# EAGLE library part ADV7513 (library adv7513)
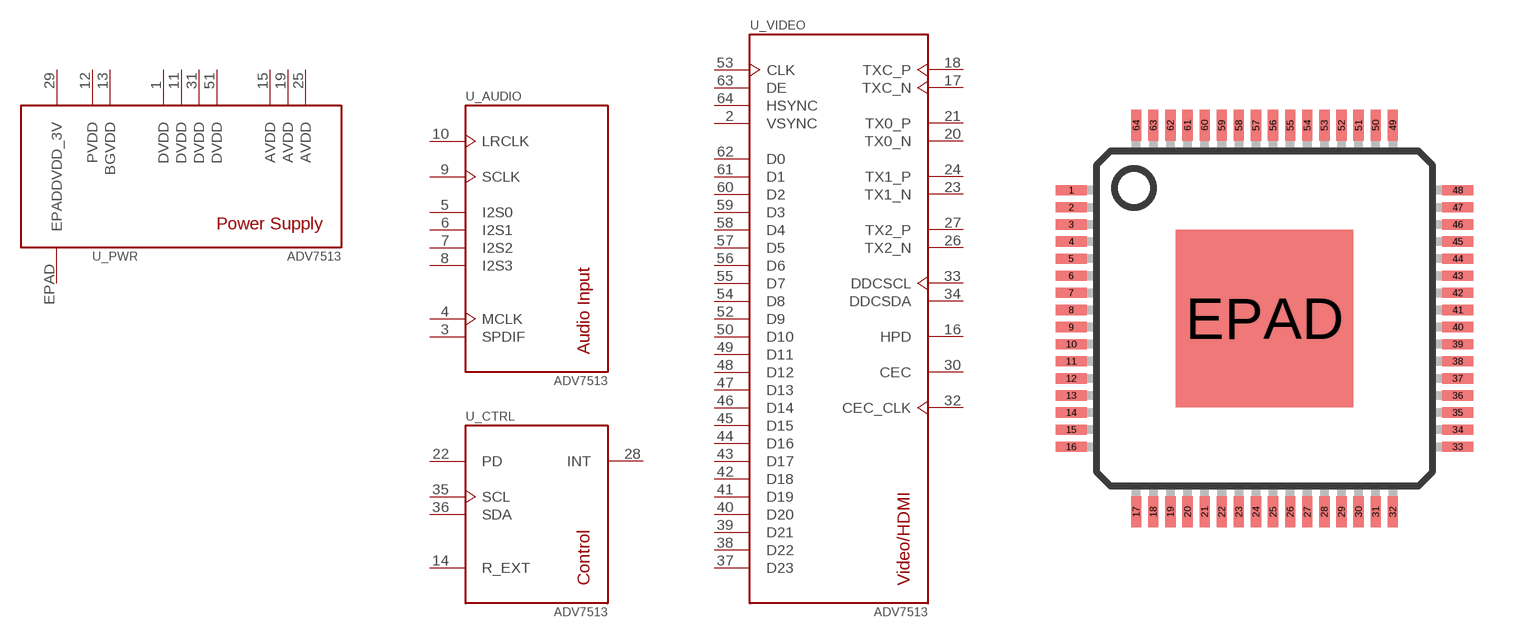
[diagram p0: symbol with the pads of LQFP-ST-64-2; footprint LQFP-ST-64-2]

Designator prefix -; gates _VIDEO=ADV7513 _AUDIO=ADV7513_AUDIO _CTRL=ADV7513_CTRL _PWR=ADV7513_PWR

## ADV7513  [LQFP-ST-64-2]
1  _PWR:DVDD  pwr
2  _VIDEO:VSYNC  in
3  _AUDIO:SPDIF  in
4  _AUDIO:MCLK  in
5  _AUDIO:I2S0  in
6  _AUDIO:I2S1  in
7  _AUDIO:I2S2  in
8  _AUDIO:I2S3  in
9  _AUDIO:SCLK  in
10  _AUDIO:LRCLK  in
11  _PWR:DVDD  pwr
12  _PWR:PVDD  pwr
13  _PWR:BGVDD  pwr
14  _CTRL:R_EXT  in
15  _PWR:AVDD  pwr
16  _VIDEO:HPD  in
17  _VIDEO:TXC_N  out
18  _VIDEO:TXC_P  out
19  _PWR:AVDD  pwr
20  _VIDEO:TX0_N  out
21  _VIDEO:TX0_P  out
22  _CTRL:PD  in
23  _VIDEO:TX1_N  out
24  _VIDEO:TX1_P  out
25  _PWR:AVDD  pwr
26  _VIDEO:TX2_N  out
27  _VIDEO:TX2_P  out
28  _CTRL:INT  out
29  _PWR:DVDD_3V  pwr
30  _VIDEO:CEC
31  _PWR:DVDD  pwr
32  _VIDEO:CEC_CLK  in
33  _VIDEO:DDCSCL  out
34  _VIDEO:DDCSDA
35  _CTRL:SCL  in
36  _CTRL:SDA
37  _VIDEO:D23  in
38  _VIDEO:D22  in
39  _VIDEO:D21  in
40  _VIDEO:D20  in
41  _VIDEO:D19  in
42  _VIDEO:D18  in
43  _VIDEO:D17  in
44  _VIDEO:D16  in
45  _VIDEO:D15  in
46  _VIDEO:D14  in
47  _VIDEO:D13  in
48  _VIDEO:D12  in
49  _VIDEO:D11  in
50  _VIDEO:D10  in
51  _PWR:DVDD  pwr
52  _VIDEO:D9  in
53  _VIDEO:CLK
54  _VIDEO:D8  in
55  _VIDEO:D7  in
56  _VIDEO:D6  in
57  _VIDEO:D5  in
58  _VIDEO:D4  in
59  _VIDEO:D3  in
60  _VIDEO:D2  in
61  _VIDEO:D1  in
62  _VIDEO:D0  in
63  _VIDEO:DE  in
64  _VIDEO:HSYNC  in
EPAD  _PWR:EPAD  pwr

## Footprint LQFP-ST-64-2 (pad centres in mm)
64-Lead Low Profile Quad Flat Package [LQFP_EP] (SW-64-2) COMPLIANT TO JEDEC STANDARDS MS-026-BCD-HD
smd 0.9 x 0.3: 1 -5.65,3.75; 2 -5.65,3.25; 3 -5.65,2.75; 4 -5.65,2.25; 5 -5.65,1.75; 6 -5.65,1.25; 7 -5.65,0.75; 8 -5.65,0.25; 9 -5.65,-0.25; 10 -5.65,-0.75; 11 -5.65,-1.25; 12 -5.65,-1.75; 13 -5.65,-2.25; 14 -5.65,-2.75; 15 -5.65,-3.25; 16 -5.65,-3.75; 33 5.65,-3.75; 34 5.65,-3.25; 35 5.65,-2.75; 36 5.65,-2.25; 37 5.65,-1.75; 38 5.65,-1.25; 39 5.65,-0.75; 40 5.65,-0.25; 41 5.65,0.25; 42 5.65,0.75; 43 5.65,1.25; 44 5.65,1.75; 45 5.65,2.25; 46 5.65,2.75; 47 5.65,3.25; 48 5.65,3.75
smd 0.3 x 0.9: 17 -3.75,-5.65; 18 -3.25,-5.65; 19 -2.75,-5.65; 20 -2.25,-5.65; 21 -1.75,-5.65; 22 -1.25,-5.65; 23 -0.75,-5.65; 24 -0.25,-5.65; 25 0.25,-5.65; 26 0.75,-5.65; 27 1.25,-5.65; 28 1.75,-5.65; 29 2.25,-5.65; 30 2.75,-5.65; 31 3.25,-5.65; 32 3.75,-5.65; 49 3.75,5.65; 50 3.25,5.65; 51 2.75,5.65; 52 2.25,5.65; 53 1.75,5.65; 54 1.25,5.65; 55 0.75,5.65; 56 0.25,5.65; 57 -0.25,5.65; 58 -0.75,5.65; 59 -1.25,5.65; 60 -1.75,5.65; 61 -2.25,5.65; 62 -2.75,5.65; 63 -3.25,5.65; 64 -3.75,5.65
smd 5.2 x 5.2: EPAD 0,0